# Altium footprint library Jumper-2pin.PcbLib: 1 footprints
Each footprint in its own frame and in the unit in brackets; x right, y up, seen from the top. Pads: shape width x height; smd on the part's side, far side on the other; paste and mask are expansions set on the pad; w line width, h text height; cw(c..) or ccw(c..) is an arc to the next point about the centre after c.
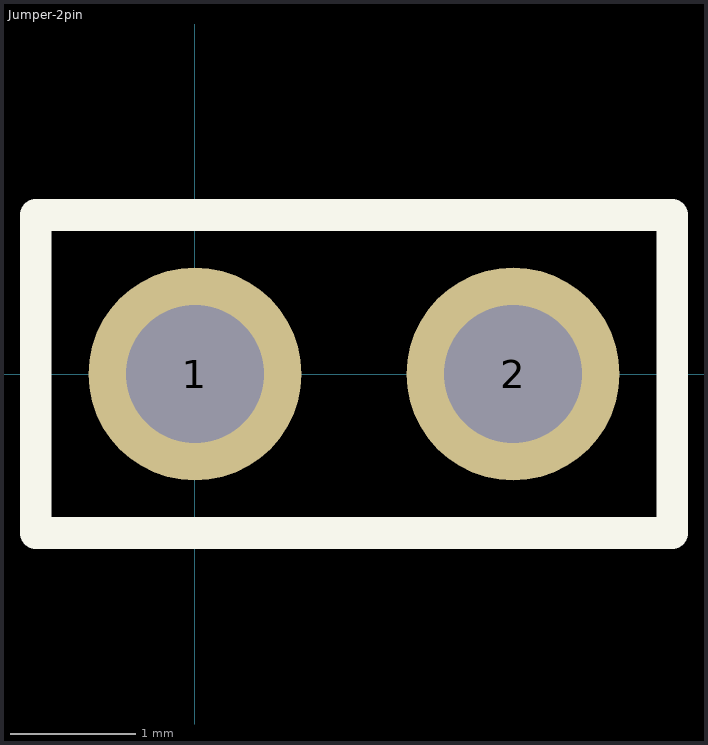
[diagram p0: the footprint, top view; thin cyan lines are the x and y axes]

## Jumper-2pin [mm]
pads (2):
  round 1.7 hole 1.1: 1(0,0) 2(2.54,0)
Top Overlay:
  lines w0.254: -1.27,-1.27 -1.27,1.27 3.81,1.27 3.81,-1.27 -1.27,-1.27
3D body "Jumper Closed.stp": height 8.72, standoff -3.05, extent -1.27,-1.272 3.81,1.268